# Altium schematic symbol library ESClib1.SchLib: 62 symbols (part 2 of 2)
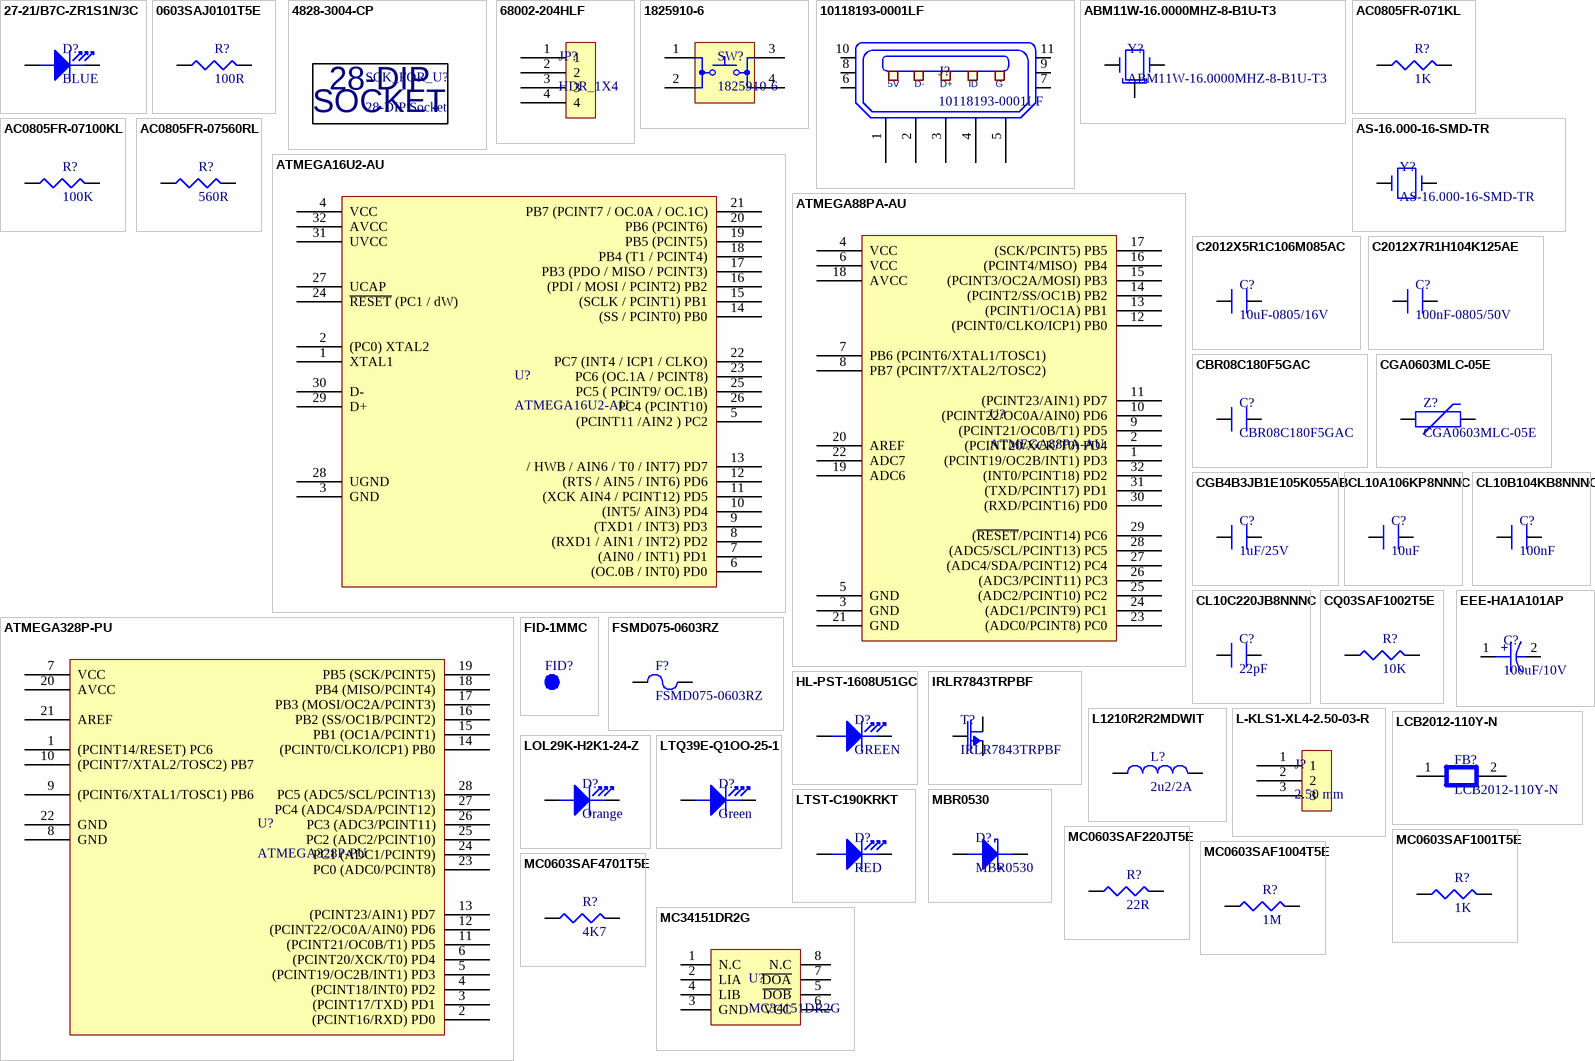
[diagram p2: symbols 27-21/B7C-ZR1S1N/3C to MC34151DR2G]

## LTST-C190KRKT
designator D?, comment RED
0603 red led alingap 631nm-639nm water clear 18-180mcd 130d; Manufacturer: Vishay Lite-On; Manufacturer Part Number: LTST-C190KRKT; Lens Color: Colorless; Luminous Intensity: 54mcd; Forward Current: 30mA; Viewing Angle: 130°; Forward Voltage: 2.4V; Lens Style: Diffused,Colorless,Clear,Rectangular; Power Rating: 75mW; Dominant Wavelength: 631nm; Test Current: 20mA; Number of Elements: 1; Wavelength: 639nm; Reverse Voltage: 5V; OZDISAN_PRICE: 0.38 TRY; Supplier 1: Digi-Key; RoHS: Yes; Category: LEDs; Stock 1: 874288; Pricing 1: 1=0,24000, 10=0,13200, 100=0,06110, 500=0,05640, 1000=0,04418, 2000=0,04324 (USD); Mount: Surface Mount; Case/Package: 0603; Number of Pins: 2; Color: Red; Case Code (Metric): 1608; Case Code (Imperial): 0603; Min Operating Temperature: -55°C; Max Operating Temperature: 85°C; Packaging: Tape and Reel; Package Quantity: 1; Illumination Color: Red; Lens Transparency: Clear; Power Dissipation: 75mW; Number of LEDs: 1; Length: 1.6mm; Width: 0.8mm; Height: 0.8mm; Depth: 0.8mm; Radiation Hardening: No; Lead Free: Lead Free; RoHS Compliant: Yes; ComponentLink1URL: https://datasheet.ciiva.com/19482/1260381-19482354.pdf?src-supplier=Jameco; ComponentLink1Description: https://datasheet.ciiva.com/19482/1260381-19482354.pdf?src-supplier=Jameco; ComponentLink2URL: https://datasheet.ciiva.com/11774/0900766b80dc02a9-11774043.pdf?src-supplier=RSComponents; ComponentLink2Description: https://datasheet.ciiva.com/11774/0900766b80dc02a9-11774043.pdf?src-supplier=RSComponents; ComponentLink3URL: https://datasheet.ciiva.com/12403/100-ltst-c190krkt-59805-12403895.pdf?src-supplier=Mouser; ComponentLink3Description: https://datasheet.ciiva.com/12403/100-ltst-c190krkt-59805-12403895.pdf?src-supplier=Mouser; ComponentLink4URL: https://datasheet.ciiva.com/16427/ltst-c190krkt-16427674.pdf?src-supplier=Future+Electronics; ComponentLink4Description: https://datasheet.ciiva.com/16427/ltst-c190krkt-16427674.pdf?src-supplier=Future+Electronics; ComponentLink5URL: https://datasheet.ciiva.com/15117/getdatasheetpartid-57395-15117240.pdf?src-supplier=Verical; ComponentLink5Description: https://datasheet.ciiva.com/15117/getdatasheetpartid-57395-15117240.pdf?src-supplier=Verical; ComponentLink6URL: https://datasheet.ciiva.com/2109/s-110-ltst-c190krkt-2109992.pdf?src-supplier=Digi-Key; ComponentLink6Description: https://datasheet.ciiva.com/2109/s-110-ltst-c190krkt-2109992.pdf?src-supplier=Digi-Key; ComponentLink7URL: https://datasheet.ciiva.com/2109/s-110-ltst-c190krkt-2109991.pdf?src-supplier=Digi-Key; ComponentLink7Description: https://datasheet.ciiva.com/2109/s-110-ltst-c190krkt-2109991.pdf?src-supplier=Digi-Key; ComponentLink8URL: https://datasheet.ciiva.com/2109/s-110-ltst-c190krkt-2109993.pdf?src-supplier=Digi-Key; ComponentLink8Description: https://datasheet.ciiva.com/2109/s-110-ltst-c190krkt-2109993.pdf?src-supplier=Digi-Key; ComponentLink9URL: https://datasheet.ciiva.com/26937/getdatasheetpartid-631582-26937958.pdf?src-supplier=Verical; ComponentLink9Description: https://datasheet.ciiva.com/26937/getdatasheetpartid-631582-26937958.pdf?src-supplier=Verical; Supplier Part Number 1: 160-1436-1-ND; ComponentLink10Description: OZDISAN_LINK; ComponentLink10URL: https://ozdisan.com/led-ve-aydinlatma-cozumleri/led-komponentler/sinyal-ledler-renkli/LTST-C190KRKT
footprint LED-0603
pins: 1 Cathode, 2 Anode

## MBR0530
designator D?
DIODE SCHOTTKY 30V 500MA SOD123; Manufacturer: ON Semiconductor / Fairchild; Element Configuration: Single; Max Surge Current: 5.5A; Max Reverse Leakage Current: 130uA; Forward Voltage: 430mV; Polarity: Standard; Supplier 1: Newark; Manufacturer Part Number: MBR0530; RoHS: Yes; Category: Schottky Diodes; Stock 1: 10; Pricing 1: 1=0,34400, 10=0,23900, 100=0,12200, 500=0,10000 (USD); Mount: Surface Mount; Number of Pins: 2; Contact Plating: Tin,Matte; Weight: 0.03g; Min Operating Temperature: -65°C; Max Operating Temperature: 150°C; Packaging: Tape and Reel; Package Quantity: 1; Peak Non-Repetitive Surge Current: 5.5A; Average Rectified Current: 500mA; Max Reverse Voltage (DC): 30V; Forward Current: 500mA; Max Reverse Current: 130uA; Max Repetitive Reverse Voltage (Vrrm): 30V; Max Forward Surge Current (Ifsm): 5.5A; Voltage Rating (DC): 30V; Current Rating: 500mA; Output Current: 500mA; Series: -; Length: 2.7mm; Width: 1.6mm; Height: 1.03mm; Radiation Hardening: No; RoHS Compliant: Yes; REACH SVHC: No SVHC; Lead Free: Lead Free; ComponentLink1URL: https://datasheet.ciiva.com/30479/0900766b810e2512-30479401.pdf?src-supplier=RSComponents; ComponentLink1Description: https://datasheet.ciiva.com/30479/0900766b810e2512-30479401.pdf?src-supplier=RSComponents; ComponentLink2URL: https://datasheet.ciiva.com/34301/974753-34301826.pdf?src-supplier=Jameco; ComponentLink2Description: https://datasheet.ciiva.com/34301/974753-34301826.pdf?src-supplier=Jameco; ComponentLink3URL: https://datasheet.ciiva.com/910/mbr0530-910516.pdf?src-supplier=Digi-Key; ComponentLink3Description: https://datasheet.ciiva.com/910/mbr0530-910516.pdf?src-supplier=Digi-Key; ComponentLink4URL: https://datasheet.ciiva.com/25931/mbr0530-25931989.pdf?src-supplier=Avnet+Europe; ComponentLink4Description: https://datasheet.ciiva.com/25931/mbr0530-25931989.pdf?src-supplier=Avnet+Europe; ComponentLink5URL: https://datasheet.ciiva.com/8300/mbr0530-8300905.pdf?src-supplier=Avnet; ComponentLink5Description: https://datasheet.ciiva.com/8300/mbr0530-8300905.pdf?src-supplier=Avnet; ComponentLink6URL: https://datasheet.ciiva.com/17318/mbr0530-17318568.pdf?src-supplier=Future+Electronics; ComponentLink6Description: https://datasheet.ciiva.com/17318/mbr0530-17318568.pdf?src-supplier=Future+Electronics; ComponentLink7URL: https://datasheet.ciiva.com/15144/getdatasheetpartid-86760-15144598.pdf?src-supplier=Verical; ComponentLink7Description: https://datasheet.ciiva.com/15144/getdatasheetpartid-86760-15144598.pdf?src-supplier=Verical; ComponentLink8URL: https://datasheet.ciiva.com/910/mbr0530-910518.pdf?src-supplier=Digi-Key; ComponentLink8Description: https://datasheet.ciiva.com/910/mbr0530-910518.pdf?src-supplier=Digi-Key; Supplier Part Number 1: 15R3453
footprint SOD-123
pins: 1 Cathode, 2 Anode

## MC0603SAF220JT5E
designator R?, comment 22R
MULTICOMP         MC0603SAF220JT5E            RESISTOR, THICK FILM, 22OHM, 100mW, 1%; Voltage Rating: 75V; Temperature Coefficient: 100ppm/°C; OZDISAN_PRICE: 0.02 TRY; Supplier 1: Newark; Manufacturer: Multicomp; Manufacturer Part Number: MC0603SAF220JT5E; RoHS: Yes; Category: Resistors; Case/Package: 0603; Number of Pins: 2; Case Code (Metric): 1608; Case Code (Imperial): 0603; Packaging: Cut Tape; Resistance: 22R; Resistor Type: Thick Film; Power Rating: 100mW; Tolerance: 1%; Voltage Rating (DC): 75V; Resistance Tolerance: 1%; RoHS Compliant: Yes; REACH SVHC: Unknown; ComponentLink1URL: https://datasheet.ciiva.com/7918/ta-677-7918822.pdf?src-supplier=Element14; ComponentLink1Description: https://datasheet.ciiva.com/7918/ta-677-7918822.pdf?src-supplier=Element14; Supplier Part Number 1: 79M5934; ComponentLink2Description: OZDISAN_LINK; ComponentLink2URL: https://ozdisan.com/pasif-komponentler/direncler/smt-smd-ve-cip-direncler/0603SAF220JT5E
footprint Z0603
pins: 1, 2

## MC0603SAF1001T5E
designator R?, comment 1K
MULTICOMP - MC0603SAF1001T5E - THICK FILM RESISTOR, 1KOHM, 100mW, 1%; Resistance: 1kR; Voltage Rating: 75V; Temperature Coefficient: 100ppm/°C; OZDISAN_PRICE: 0.02 TRY; Supplier 1: Farnell; Manufacturer: Multicomp; Manufacturer Part Number: MC0603SAF1001T5E; RoHS: Yes; Category: Resistors; Stock 1: 340; Pricing 1: 1=0,00890, 10=0,00810, 100=0,00730, 1000=0,00390 (GBP); Case/Package: 0603; Case Code (Metric): 1608; Case Code (Imperial): 0603; Tolerance: 1%; Power Rating: 100mW; Resistor Type: Thick Film; Packaging: Cut Tape; Voltage Rating (DC): 75V; Resistance Tolerance: 1%; RoHS Compliant: Yes; REACH SVHC: Unknown; ComponentLink1URL: https://datasheet.ciiva.com/7881/ta-677-7881657.pdf?src-supplier=Element14; ComponentLink1Description: https://datasheet.ciiva.com/7881/ta-677-7881657.pdf?src-supplier=Element14; Supplier Part Number 1: 1632391; ComponentLink2Description: OZDISAN_LINK; ComponentLink2URL: https://ozdisan.com/pasif-komponentler/direncler/smt-smd-ve-cip-direncler/0603SAF1001T5E
footprint Z0603
pins: 1, 2

## MC0603SAF1004T5E
designator R?, comment 1M
Res General Purpose Thick Film 0603 1M Ohm 1% 1/10W ±100ppm/°C Molded T/R; Manufacturer: Multicomp; Manufacturer Part Number: MC0603SAF1004T5E; Resistance: 1MR; Power Rating: 100mW; Voltage Rating: 75V; OZDISAN_PRICE: 0.02 TRY; Supplier 1: Farnell; RoHS: Yes; Category: Uncategorized; Stock 1: 15998; Pricing 1: 1=0,00910, 10=0,00830, 100=0,00740, 1000=0,00400 (GBP); Case/Package: 0603; Case Code (Metric): 1608; Case Code (Imperial): 0603; Tolerance: 1%; Resistor Type: Thick Film; Packaging: Cut Tape; Temperature Coefficient: 100ppm/°C; Voltage Rating (DC): 75V; Resistance Tolerance: 1%; REACH SVHC: Unknown; RoHS Compliant: Yes; ComponentLink1URL: https://datasheet.ciiva.com/7919/ta-677-7919113.pdf?src-supplier=Element14; ComponentLink1Description: https://datasheet.ciiva.com/7919/ta-677-7919113.pdf?src-supplier=Element14; Supplier Part Number 1: 1631320; ComponentLink2Description: ÖZDISAN_LINK; ComponentLink2URL: https://ozdisan.com/pasif-komponentler/direncler/smt-smd-ve-cip-direncler/0603SAF1004T5E
footprint Z0603
pins: 1, 2

## MC0603SAF4701T5E
designator R?, comment 4K7
RES, THICK FILM, 4K7, 1%, 0.1W, 0603; Resistance: 4.7kohm; Resistance Tolerance: ± 1%; Power Rating: 100mW; Resistor...; Manufacturer: Multicomp; Manufacturer Part Number: MC0603SAF4701T5E; Voltage Rating: 75V; Resistance: 4.7kR; Temperature Coefficient: 100ppm/°C; OZDISAN_PRICE: 0.02 TRY; Supplier 1: Farnell; RoHS: Yes; Category: Uncategorized; Pricing 1: 1=0,00890, 10=0,00810, 100=0,00730, 1000=0,00400 (GBP); Case/Package: 0603; Number of Pins: 2; Case Code (Metric): 1608; Case Code (Imperial): 0603; Tolerance: 1%; Resistor Type: Thick Film; Packaging: Cut Tape; Voltage Rating (DC): 75V; Resistance Tolerance: 1%; RoHS Compliant: Yes; REACH SVHC: Unknown; ComponentLink1URL: https://datasheet.ciiva.com/7919/ta-677-7919115.pdf?src-supplier=Element14; ComponentLink1Description: https://datasheet.ciiva.com/7919/ta-677-7919115.pdf?src-supplier=Element14; Supplier Part Number 1: 1632439; ComponentLink2Description: OZDISAN_LINK; ComponentLink2URL: https://ozdisan.com/pasif-komponentler/direncler/smt-smd-ve-cip-direncler/0603SAF4701T5E
footprint Z0603
pins: 1, 2

## MC34151DR2G
designator U?
MC34151DR2G; Dual MOSFET Power Driver 1.5A; 6.5 to 18 V; Inverting; 8-Pin SOIC; Manufacturer: ON Semiconductor; Rise Time: 31ns; Propagation Delay: 100ns; Max Supply Voltage: 18V; Min Supply Voltage: 6.5V; Operating Supply Voltage: 12V; Number of Outputs: 2; Max Power Dissipation: 560mW; Nominal Supply Current: 10.5mA; Fall Time: 32ns; Turn-On Delay Time: 100ps; Turn-Off Delay Time: 0.0001ms; OZDISAN_PRICE: 16,19 TRY; Supplier 1: RSComponents; Manufacturer Part Number: MC34151DR2G; RoHS: Yes; Category: Gate Drivers; Stock 1: 1; Pricing 1: 10=1,76000, 50=1,49600, 200=1,32300, 500=1,14100 (USD); Mount: Surface Mount; Case/Package: SOIC; Number of Pins: 8; Min Operating Temperature: 0°C; Max Operating Temperature: 70°C; Max Output Current: 1.5A; Packaging: Tape and Reel; Package Quantity: 1; Number of Drivers: 2; Power Dissipation: 560mW; Series: -; Supply Current: 10.5mA; Length: 5mm; Width: 4mm; Height: 1.5mm; Radiation Hardening: No; REACH SVHC: No SVHC; Lead Free: Lead Free; Halogen Free: Halogen Free; RoHS Compliant: Yes; ComponentLink1URL: https://datasheet.ciiva.com/15109/getdatasheetpartid-134182-15109928.pdf?src-supplier=Verical; ComponentLink1Description: https://datasheet.ciiva.com/15109/getdatasheetpartid-134182-15109928.pdf?src-supplier=Verical; ComponentLink2URL: https://datasheet.ciiva.com/1952/mc34151-d-1952163.pdf?src-supplier=Digi-Key; ComponentLink2Description: https://datasheet.ciiva.com/1952/mc34151-d-1952163.pdf?src-supplier=Digi-Key; ComponentLink3URL: https://datasheet.ciiva.com/1952/mc34151-d-1952164.pdf?src-supplier=Digi-Key; ComponentLink3Description: https://datasheet.ciiva.com/1952/mc34151-d-1952164.pdf?src-supplier=Digi-Key; ComponentLink4URL: https://datasheet.ciiva.com/1952/mc34151-d-1952165.pdf?src-supplier=Digi-Key; ComponentLink4Description: https://datasheet.ciiva.com/1952/mc34151-d-1952165.pdf?src-supplier=Digi-Key; ComponentLink5URL: https://datasheet.ciiva.com/3226/mc34151-d-3226488.pdf?src-supplier=Avnet; ComponentLink5Description: https://datasheet.ciiva.com/3226/mc34151-d-3226488.pdf?src-supplier=Avnet; ComponentLink6URL: https://datasheet.ciiva.com/16446/mc34151-d-16446234.pdf?src-supplier=Future+Electronics; ComponentLink6Description: https://datasheet.ciiva.com/16446/mc34151-d-16446234.pdf?src-supplier=Future+Electronics; ComponentLink7URL: https://datasheet.ciiva.com/4898/mc34151-d-24876-4898572.pdf?src-supplier=Mouser; ComponentLink7Description: https://datasheet.ciiva.com/4898/mc34151-d-24876-4898572.pdf?src-supplier=Mouser; Supplier Part Number 1: 8083889; ComponentLink8Description: OZDISAN_LINK; ComponentLink8URL: https://ozdisan.com/entegre-devreler-ics/guc-entegreleri/guc-surucu-entegreleri/MC34151DR2G
footprint SOIC-8 (MC34151DR2G)
pins: 1 N.C, 2 LIA, 3 GND, 4 LIB, 5 ~{DOB}, 6 VCC, 7 ~{DOA}, 8 N.C

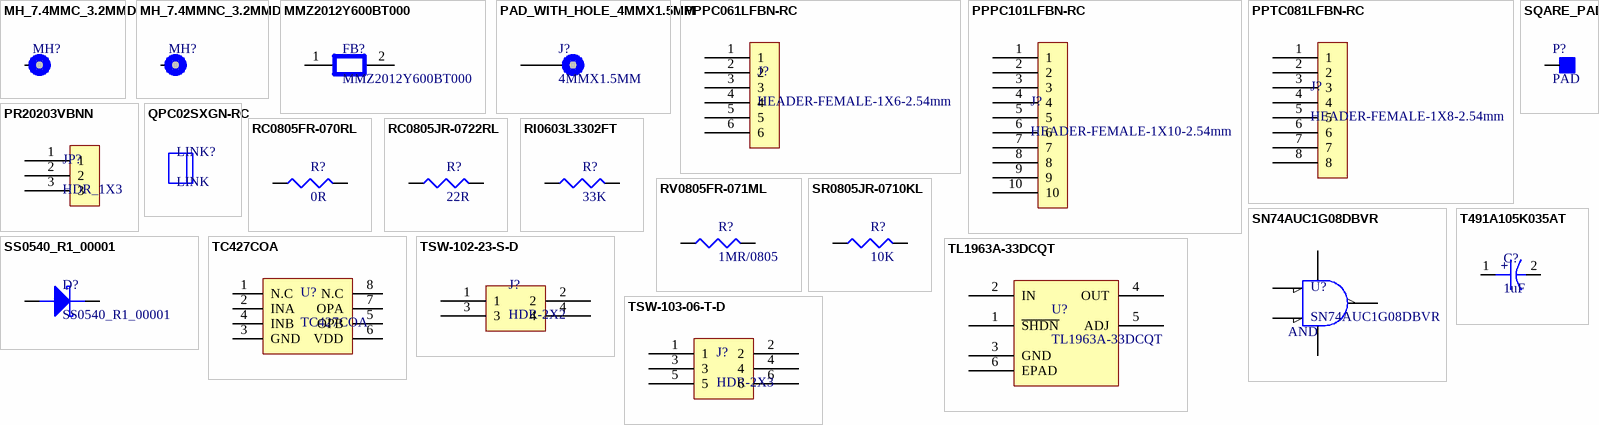
[diagram p1: symbols MH_7.4MMC_3.2MMD to TSW-103-06-T-D]

## MH_7.4MMC_3.2MMD
designator MH?  (value not drawn)  (no BOM)
Mounting Hole 7.4 mm Diameter, 3.2 mm Drill
footprint MH_7.4MMC_3.2MMD
pins: 1

## MH_7.4MMNC_3.2MMD
designator MH?, comment MH_7.4MMC_3.2MMD  (value not drawn)  (no BOM)
Mounting Hole 7.4 mm Diameter (Non Copper), 3.2 mm Drill NPTH
footprint MH_7.4MMC_3.2MMD_NON_COPPER_NPLT
pins: 1

## MMZ2012Y600BT000
designator FB?
TDK         MMZ2012Y600BT000             FERRITE BEAD, 60 OHM, 1A, 0805; Tolerance: 25%; Impedance: 60R; DC Resistance (DCR): 100mR; Supplier 1: Digi-Key; Manufacturer: TDK; Manufacturer Part Number: MMZ2012Y600BT000; RoHS: Yes; Category: Ferrite Beads and Chips; Stock 1: 10400; Pricing 1: 1=0,11000, 10=0,08800, 25=0,07920, 50=0,05800, 100=0,05020, 250=0,03960, 500=0,03344, 1000=0,02816 (USD); Mount: Surface Mount; Case/Package: 0805; Core Material: Ferrite; Case Code (Metric): 2012; Case Code (Imperial): 0805; Current Rating: 1A; Package Quantity: 4000; Packaging: Tape and Reel; Max DC Current: 1A; Length: 0.079inch; Width: 0.049inch; Height: 0.041inch; Depth: 1.25mm; RoHS Compliant: Yes; REACH SVHC: No SVHC; ComponentLink1URL: https://datasheet.ciiva.com/46634/beads-commercial-signal-mmz-en-46634486.pdf?src-supplier=Digi-Key; ComponentLink1Description: https://datasheet.ciiva.com/46634/beads-commercial-signal-mmz-en-46634486.pdf?src-supplier=Digi-Key; ComponentLink2URL: https://datasheet.ciiva.com/46634/beads-commercial-signal-mmz-en-46634489.pdf?src-supplier=Digi-Key; ComponentLink2Description: https://datasheet.ciiva.com/46634/beads-commercial-signal-mmz-en-46634489.pdf?src-supplier=Digi-Key; ComponentLink3URL: https://datasheet.ciiva.com/46634/beads-commercial-signal-mmz-en-46634603.pdf?src-supplier=Digi-Key; ComponentLink3Description: https://datasheet.ciiva.com/46634/beads-commercial-signal-mmz-en-46634603.pdf?src-supplier=Digi-Key; ComponentLink4URL: https://datasheet.ciiva.com/48682/beads-commercial-signal-mmz-en-48682571.pdf?src-supplier=Avnet; ComponentLink4Description: https://datasheet.ciiva.com/48682/beads-commercial-signal-mmz-en-48682571.pdf?src-supplier=Avnet; Supplier Part Number 1: 445-2204-1-ND
footprint C0805
pins: 1, 2

## PAD_WITH_HOLE_4MMX1.5MM
designator J?, comment 4MMX1.5MM  (no BOM)
Pad with a hole 4mm x 1.5mm
footprint PAD_WITH_HOLE_4MMX1.5MM
pins: 1

## PPPC061LFBN-RC
designator J?, comment HEADER-FEMALE-1X6-2.54mm
CONN HDR 6POS 0.1 GOLD PCB; Manufacturer: Sullins; Manufacturer Part Number: PPPC061LFBN-RC; Connector Type: Header,Socket; Number of Positions: 6; Pitch: 0.1inch; Supplier 1: Digi-Key; RoHS: Yes; Category: Connectors; Stock 1: 33601; Pricing 1: 1=0,53000, 10=0,46500, 80=0,38300, 440=0,33300, 1000=0,27472, 5000=0,24142, 10000=0,24050 (USD); Mount: Through Hole; Color: Black; Contact Plating: Gold; Housing Material: Plastic; Contact Material: Bronze; Package Quantity: 1000; Number of Rows: 1; Packaging: Bulk; Termination: Solder; Length: 15.7mm; Width: 2.5mm; Height: 8.5mm; Lead Free: Lead Free; ComponentLink1URL: https://media.digikey.com/pdf/Data%20Sheets/Sullins%20PDFs/Female_Headers.100_DS.pdf?src-supplier=Digi-Key; ComponentLink1Description: https://media.digikey.com/pdf/Data%20Sheets/Sullins%20PDFs/Female_Headers.100_DS.pdf?src-supplier=Digi-Key; Supplier Part Number 1: S7039-ND
footprint FEMALE-1X6-2.54mm
pins: 1, 2, 3, 4, 5, 6

## PPPC101LFBN-RC
designator J?, comment HEADER-FEMALE-1X10-2.54mm
CONN HDR 10POS 0.1 GOLD PCB; Manufacturer: Sullins; Manufacturer Part Number: PPPC101LFBN-RC; Number of Positions: 10; Connector Type: Header,Socket; Pitch: 0.1inch; Supplier 1: Digi-Key; RoHS: Yes; Category: Connectors; Stock 1: 33225; Pricing 1: 1=0,68000, 10=0,57100, 80=0,51288, 440=0,41959, 1000=0,37296, 5000=0,33670 (USD); Mount: Through Hole; Color: Black; Contact Material: Bronze; Housing Material: Plastic; Contact Plating: Gold; Number of Rows: 1; Packaging: Bulk; Termination: Solder; Package Quantity: 1000; Length: 25.9mm; Width: 2.5mm; Height: 8.5mm; Lead Free: Lead Free; ComponentLink1URL: https://media.digikey.com/pdf/Data%20Sheets/Sullins%20PDFs/Female_Headers.100_DS.pdf?src-supplier=Digi-Key; ComponentLink1Description: https://media.digikey.com/pdf/Data%20Sheets/Sullins%20PDFs/Female_Headers.100_DS.pdf?src-supplier=Digi-Key; ComponentLink2URL: http://www.sullinscorp.com/catalogs/78_Page80-81_HEADER_.100_2.54mm_FEMALE.pdf?src-supplier=Future+Electronics; ComponentLink2Description: http://www.sullinscorp.com/catalogs/78_Page80-81_HEADER_.100_2.54mm_FEMALE.pdf?src-supplier=Future+Electronics; Supplier Part Number 1: S7043-ND
footprint FEMALE-1X10-2.54mm
pins: 1, 2, 3, 4, 5, 6, 7, 8, 9, 10

## PPTC081LFBN-RC
designator J?, comment HEADER-FEMALE-1X8-2.54mm
CONN HDR 8POS 0.1 TIN PCB; Manufacturer: Sullins; Manufacturer Part Number: PPTC081LFBN-RC; Number of Positions: 8; Connector Type: Header; Pitch: 0.1inch; Supplier 1: Digi-Key; RoHS: Yes; Category: Connectors; Stock 1: 76748; Pricing 1: 1=0,65000, 10=0,56500, 400=0,42525, 800=0,36450, 1200=0,33413, 5200=0,29363, 10000=0,29250 (USD); Mount: Through Hole; Color: Black; Contact Plating: Tin; Contact Material: Bronze; Housing Material: Plastic; Package Quantity: 1000; Number of Rows: 1; Packaging: Bulk; Termination: Solder; Contact Type: Female Socket; Length: 20.8mm; Width: 2.5mm; Height: 8.5mm; Lead Free: Lead Free; RoHS Compliant: Yes; ComponentLink1URL: https://media.digikey.com/pdf/Data%20Sheets/Sullins%20PDFs/Female_Headers.100_DS.pdf?src-supplier=Digi-Key; ComponentLink1Description: https://media.digikey.com/pdf/Data%20Sheets/Sullins%20PDFs/Female_Headers.100_DS.pdf?src-supplier=Digi-Key; ComponentLink2URL: http://www.sullinscorp.com/catalogs/78_Page80-81_HEADER_.100_2.54mm_FEMALE.pdf?src-supplier=Future+Electronics; ComponentLink2Description: http://www.sullinscorp.com/catalogs/78_Page80-81_HEADER_.100_2.54mm_FEMALE.pdf?src-supplier=Future+Electronics; Supplier Part Number 1: S7006-ND
footprint FEMALE-1X8-2.54mm
pins: 1, 2, 3, 4, 5, 6, 7, 8

## PR20203VBNN
designator JP?, comment HDR_1X3
METZ CONNECT - PR20203VBNN - CONNECTOR, HEADER, 3POS, 1ROW, 2.54MM; Supplier 1: Digi-Key; Manufacturer: METZ CONNECT; Manufacturer Part Number: PR20203VBNN; RoHS: No; Category: Headers and Wire Housings; Stock 1: 23360; Pricing 1: 1=0,10000, 10=0,05000, 100=0,03650, 500=0,03024, 1000=0,02646, 5000=0,02268, 10000=0,02205 (USD); ComponentLink1URL: http://www.farnell.com/datasheets/2372088.pdf?src-supplier=Farnell; ComponentLink1Description: http://www.farnell.com/datasheets/2372088.pdf?src-supplier=Farnell; ComponentLink2URL: https://www.metz-connect.com/us/system/files/productfiles/Data_sheet_PR202XXVBNN_PR202XXVBNN_OFF-024022P.pdf?src-supplier=Digi-Key; ComponentLink2Description: https://www.metz-connect.com/us/system/files/productfiles/Data_sheet_PR202XXVBNN_PR202XXVBNN_OFF-024022P.pdf?src-supplier=Digi-Key; ComponentLink3URL: http://www.farnell.com/datasheets/2372088.pdf?src-supplier=Newark; ComponentLink3Description: http://www.farnell.com/datasheets/2372088.pdf?src-supplier=Newark; Supplier Part Number 1: 1849-1003-ND
footprint FEMALE-1X3-2.54mm
pins: 1, 2, 3

## QPC02SXGN-RC
designator LINK?, comment LINK  (mechanical)
CONN JUMPER SHORTING .100" GOLD; Manufacturer: Sullins; Manufacturer Part Number: QPC02SXGN-RC; Number of Positions: 2; Pitch: 0.1inch; Supplier 1: Digi-Key; RoHS: Yes; Category: Connectors; Stock 1: 613321; Pricing 1: 1=0,10000, 10=0,05000, 25=0,04080, 50=0,03780, 100=0,03650, 250=0,03152, 500=0,03024, 1000=0,02646, 2500=0,02394 (USD); Case/Package: 100; Contact Plating: Gold; Package Quantity: 2000; Packaging: Bulk; Height: 0.235inch; Lead Free: Lead Free; ComponentLink1URL: https://datasheet.ciiva.com/767/284-sxgn-11510-767869.pdf?src-supplier=Digi-Key; ComponentLink1Description: https://datasheet.ciiva.com/767/284-sxgn-11510-767869.pdf?src-supplier=Digi-Key; Supplier Part Number 1: S9337-ND

## RC0805FR-070RL
designator R?, comment 0R
Res Thick Film 0805 0 Ohm Epoxy Pad SMD T/R; Manufacturer: Yageo; Manufacturer Part Number: RC0805FR-070RL; Resistance: 0mR; Tolerance: 1%; Power Rating: 125mW; Supplier 1: Digi-Key; RoHS: Yes; Category: Chip SMD Resistors; Stock 1: 312891; Pricing 1: 1=0,10000, 10=0,03200, 25=0,02360, 50=0,01780, 100=0,01320, 250=0,01004, 500=0,00802, 1000=0,00591 (USD); Case/Package: 0805; Contact Plating: Tin,Matte; Case Code (Imperial): 0805; Case Code (Metric): 2012; Size Code: 0805; Min Operating Temperature: -55°C; Max Operating Temperature: 155°C; Resistor Type: Thick Film; Packaging: Tape and Reel; Features: Moisture Resistant; Series: RC; Max Power Dissipation: 125mW; Number of Terminations: 2; Construction: Rectangular; Length: 2mm; Depth: 1.25mm; Radiation Hardening: No; Military Standard: Not; Lead Free: Lead Free; RoHS Compliant: Yes; ComponentLink1URL: https://datasheet.ciiva.com/17042/rc0805-17042698.pdf?src-supplier=Future+Electronics; ComponentLink1Description: https://datasheet.ciiva.com/17042/rc0805-17042698.pdf?src-supplier=Future+Electronics; ComponentLink2URL: https://datasheet.ciiva.com/15189/getdatasheetpartid-348154-15189885.pdf?src-supplier=Verical; ComponentLink2Description: https://datasheet.ciiva.com/15189/getdatasheetpartid-348154-15189885.pdf?src-supplier=Verical; Supplier Part Number 1: 311-0.0CRCT-ND
footprint R0805
pins: 1, 2

## RC0805JR-0722RL
designator R?, comment 22R
Res Thick Film 0805 22 Ohm 5% 1/8W 100ppm/C Molded SMD SMD Paper T/R; Manufacturer: Yageo; Manufacturer Part Number: RC0805JR-0722RL; Temperature Coefficient: 100ppm/°C; Power Rating: 125mW; Voltage Rating: 150V; Supplier 1: Digi-Key; RoHS: Yes; Category: Chip SMD Resistors; Stock 1: 938662; Pricing 1: 1=0,10000, 10=0,03600, 100=0,01450, 1000=0,00652, 2500=0,00566 (USD); Case/Package: 0805; Contact Plating: Tin,Matte,Lead; Case Code (Imperial): 0805; Case Code (Metric): 2012; Min Operating Temperature: -55°C; Max Operating Temperature: 155°C; Resistor Type: Thick Film; Tolerance: 5%; Resistance: 22R; Termination: SMD/SMT; Packaging: Tape and Reel; Length: 2mm; Depth: 1.25mm; Radiation Hardening: No; Military Standard: Not; Lead Free: Lead Free; REACH SVHC: Unknown; ComponentLink1URL: http://www.mouser.com/ds/2/447/Yageo_08112016_RC0805-968729.pdf?src-supplier=Mouser; ComponentLink1Description: http://www.mouser.com/ds/2/447/Yageo_08112016_RC0805-968729.pdf?src-supplier=Mouser; ComponentLink2URL: http://www.farnell.com/datasheets/2167052.pdf?src-supplier=Farnell; ComponentLink2Description: http://www.farnell.com/datasheets/2167052.pdf?src-supplier=Farnell; ComponentLink3URL: http://components.arrow.com/part/dataview/0323_00047573?src-supplier=Arrow+Europe; ComponentLink3Description: http://components.arrow.com/part/dataview/0323_00047573?src-supplier=Arrow+Europe; ComponentLink4URL: http://www.farnell.com/datasheets/444164.pdf?src-supplier=Farnell; ComponentLink4Description: http://www.farnell.com/datasheets/444164.pdf?src-supplier=Farnell; ComponentLink5URL: http://www.yageo.ru/pdf/RC0805.pdf?src-supplier=Future+Electronics; ComponentLink5Description: http://www.yageo.ru/pdf/RC0805.pdf?src-supplier=Future+Electronics; ComponentLink6URL: http://www.yageo.com/documents/recent/PYu-RC_Group_51_RoHS_L_10.pdf?src-supplier=Digi-Key; ComponentLink6Description: http://www.yageo.com/documents/recent/PYu-RC_Group_51_RoHS_L_10.pdf?src-supplier=Digi-Key; ComponentLink7URL: http://www.farnell.com/datasheets/442941.pdf?src-supplier=Element14; ComponentLink7Description: http://www.farnell.com/datasheets/442941.pdf?src-supplier=Element14; ComponentLink8URL: http://www.yageo.com/documents/recent/PYu-RC_Group_51_RoHS_L_9.pdf?src-supplier=Digi-Key; ComponentLink8Description: http://www.yageo.com/documents/recent/PYu-RC_Group_51_RoHS_L_9.pdf?src-supplier=Digi-Key; ComponentLink9URL: http://www.yageo.com/pdf/PYu-RC0805_51_RoHS_L_4.pdf?src-supplier=Avnet; ComponentLink9Description: http://www.yageo.com/pdf/PYu-RC0805_51_RoHS_L_4.pdf?src-supplier=Avnet; ComponentLink10URL: http://www.farnell.com/datasheets/444164.pdf?src-supplier=Element14; ComponentLink10Description: http://www.farnell.com/datasheets/444164.pdf?src-supplier=Element14; ComponentLink11URL: http://www.farnell.com/datasheets/2167052.pdf?src-supplier=Newark; ComponentLink11Description: http://www.farnell.com/datasheets/2167052.pdf?src-supplier=Newark; ComponentLink12URL: http://www.yageo.com/documents/recent/PYu-RC0805_51_RoHS_L_5.pdf?src-supplier=Avnet+Europe; ComponentLink12Description: http://www.yageo.com/documents/recent/PYu-RC0805_51_RoHS_L_5.pdf?src-supplier=Avnet+Europe; Supplier Part Number 1: 311-22ARCT-ND
footprint R0805
pins: 1, 2

## RI0603L3302FT
designator R?, comment 33K
OZDISAN_PRICE: 0.09 TRY; ComponentLink1Description: OZDISAN_LINK; ComponentLink1URL: https://ozdisan.com/pasif-komponentler/direncler/smt-smd-ve-cip-direncler/TC0325B3302T5C; Case-Package: 0603
footprint Z0603
pins: 1, 2

## RV0805FR-071ML
designator R?, comment 1MR/0805
RES SMD 1M OHM 1% 1/8W 0805; Manufacturer: Yageo; Manufacturer Part Number: RV0805FR-071ML; Resistance: 1MR; Power Rating: 125mW; Voltage Rating: 400V; Temperature Coefficient: 200ppm/°C; Supplier 1: Digi-Key; RoHS: Yes; Category: Chip SMD Resistors; Stock 1: 4797; Pricing 1: 1=0,53000, 10=0,38100, 100=0,15240, 1000=0,07511, 2500=0,06959 (USD); Case/Package: 0805; Case Code (Metric): 2012; Case Code (Imperial): 0805; Min Operating Temperature: -55°C; Max Operating Temperature: 155°C; Package Quantity: 1; Tolerance: 1%; Packaging: Tape and Reel; Resistor Type: Thick Film; Number of Terminations: 2; Termination: SMD/SMT; Max Power Dissipation: 125mW; Features: Moisture Resistant; Series: RV; Length: 0.079inch; Width: 0.049inch; Height: 0.024inch; Lead Free: Lead Free; RoHS Compliant: Yes; ComponentLink1URL: https://datasheet.ciiva.com/5558/pyu-rv-51-rohs-l-2-5558239.pdf?src-supplier=Mouser; ComponentLink1Description: https://datasheet.ciiva.com/5558/pyu-rv-51-rohs-l-2-5558239.pdf?src-supplier=Mouser; Supplier Part Number 1: 311-1MNGCT-ND
footprint R0805
pins: 1, 2

## SN74AUC1G08DBVR
designator U?
LOGIC, 74AUC1G, AND GATE, SOT23-5; Manufacturer: Texas Instruments; Min Supply Voltage: 800mV; Max Supply Voltage: 2.7V; Quiescent Current: 10uA; Number of Inputs: 2; Propagation Delay: 2ns; Number of Outputs: 1; High Level Output Current: -9mA; Low Level Output Current: 9mA; Turn-On Delay Time: 2.4ns; Schmitt Trigger Input: No; Input Type: DIFFERENTIAL; Supplier 1: Digi-Key; Manufacturer Part Number: SN74AUC1G08DBVR; RoHS: Yes; Category: Logic Gates; Stock 1: 21198; Pricing 1: 1=0,43000, 10=0,34900, 25=0,31920, 100=0,23740, 250=0,21520, 500=0,17808, 1000=0,13356 (USD); Mount: Surface Mount; Case/Package: SOT-23; Number of Pins: 5; Weight: 0.000395oz; Contact Plating: Gold; Min Operating Temperature: -40°C; Max Operating Temperature: 85°C; Logic Function: AND GATE; Package Quantity: 3000; Packaging: Tape and Reel; Number of Circuits: 1; Number of Gates: 1; Number of Input Lines: 2; Number of Output Lines: 1; Number of Elements: 1; Series: 74AUC; Technology: CMOS; Output Current: 9mA; Number of Bits: 1; Max Output Current: 9mA; Termination: SMD/SMT; Length: 3.05mm; Width: 1.75mm; Height: 1.3mm; Radiation Hardening: No; Lead Free: Lead Free; RoHS Compliant: Yes; REACH SVHC: No SVHC; ComponentLink1URL: https://datasheet.ciiva.com/4216/1146sn74auc1g08-4216507.pdf?src-supplier=Arrow+Electronics; ComponentLink1Description: https://datasheet.ciiva.com/4216/1146sn74auc1g08-4216507.pdf?src-supplier=Arrow+Electronics; ComponentLink2URL: https://datasheet.ciiva.com/6124/1775236-6124395.pdf?src-supplier=Farnell; ComponentLink2Description: https://datasheet.ciiva.com/6124/1775236-6124395.pdf?src-supplier=Farnell; ComponentLink3URL: https://datasheet.ciiva.com/23844/1634288-23844654.pdf?src-supplier=Newark; ComponentLink3Description: https://datasheet.ciiva.com/23844/1634288-23844654.pdf?src-supplier=Newark; ComponentLink4URL: https://datasheet.ciiva.com/1864/sn74auc1g08-1864662.pdf?src-supplier=Digi-Key; ComponentLink4Description: https://datasheet.ciiva.com/1864/sn74auc1g08-1864662.pdf?src-supplier=Digi-Key; ComponentLink5URL: https://datasheet.ciiva.com/1864/sn74auc1g08-1864663.pdf?src-supplier=Digi-Key; ComponentLink5Description: https://datasheet.ciiva.com/1864/sn74auc1g08-1864663.pdf?src-supplier=Digi-Key; ComponentLink6URL: https://datasheet.ciiva.com/1864/sn74auc1g08-1864664.pdf?src-supplier=Digi-Key; ComponentLink6Description: https://datasheet.ciiva.com/1864/sn74auc1g08-1864664.pdf?src-supplier=Digi-Key; ComponentLink7URL: https://datasheet.ciiva.com/14292/sn74auc1g08-14292269.pdf?src-supplier=Avnet; ComponentLink7Description: https://datasheet.ciiva.com/14292/sn74auc1g08-14292269.pdf?src-supplier=Avnet; Supplier Part Number 1: 296-13170-1-ND
footprint DBV-SOT-23-5
pins: 1, 2, 3, 4, 5
text: AND

## SQARE_PAD
designator P?, comment PAD  (no BOM)
footprint SQARE_PAD
pins: 1

## SR0805JR-0710KL
designator R?, comment 10K
RES SMD 10K OHM 5% 1/8W 0805; Manufacturer: Yageo; Manufacturer Part Number: SR0805JR-0710KL; Resistance: 10kR; Power Rating: 125mW; Voltage Rating: 150V; Temperature Coefficient: 200ppm/°C; Supplier 1: Digi-Key; RoHS: Yes; Category: Chip SMD Resistors; Stock 1: 9830; Pricing 1: 1=0,25000, 10=0,21100, 100=0,08260, 1000=0,03458, 2500=0,03170 (USD); Case/Package: 0805; Case Code (Metric): 2012; Case Code (Imperial): 0805; Min Operating Temperature: -55°C; Max Operating Temperature: 155°C; Package Quantity: 1; Tolerance: 5%; Packaging: Tape and Reel; Resistor Type: Thick Film; Number of Terminations: 2; Termination: SMD/SMT; Max Power Dissipation: 125mW; Features: Automotive AEC-Q200; Series: SR; Length: 0.079inch; Width: 0.049inch; Height: 0.024inch; RoHS Compliant: Yes; ComponentLink1URL: https://datasheet.ciiva.com/2471/pyu-sr-20105-rohs-l-1-2471968.pdf?src-supplier=Digi-Key; ComponentLink1Description: https://datasheet.ciiva.com/2471/pyu-sr-20105-rohs-l-1-2471968.pdf?src-supplier=Digi-Key; ComponentLink2URL: https://datasheet.ciiva.com/5558/pyu-sr-20105-rohs-l-1-5558104.pdf?src-supplier=Mouser; ComponentLink2Description: https://datasheet.ciiva.com/5558/pyu-sr-20105-rohs-l-1-5558104.pdf?src-supplier=Mouser; Supplier Part Number 1: 13-SR0805JR-0710KLCT-ND
footprint R0805
pins: 1, 2

## SS0540_R1_00001
designator D?
Diode Schottky 40V 0.5A 2-Pin SOD-123 T/R; Manufacturer: Pan Jit; Peak Non-Repetitive Surge Current: 5.5A; Element Configuration: Single; OZDISAN_PRICE: 0.55 TRY; Supplier 1: Digi-Key; Manufacturer Part Number: SS0540_R1_00001; RoHS: Yes; Category: Rectifier Diodes; Stock 1: 6025; Pricing 1: 1=0,29000, 10=0,23400, 100=0,12410, 500=0,08168, 1000=0,05554 (USD); Mount: Surface Mount; Min Operating Temperature: -55°C; Max Operating Temperature: 125°C; Max Repetitive Reverse Voltage (Vrrm): 40V; Radiation Hardening: No; RoHS Compliant: Yes; ComponentLink1URL: http://www.panjit.com/upload/product/14/SS0520_SERIES.pdf?src-supplier=Avnet+Europe; ComponentLink1Description: http://www.panjit.com/upload/product/14/SS0520_SERIES.pdf?src-supplier=Avnet+Europe; ComponentLink2URL: http://www.panjit.com/upload/product/14/SS0520_SERIES.pdf?src-supplier=Avnet; ComponentLink2Description: http://www.panjit.com/upload/product/14/SS0520_SERIES.pdf?src-supplier=Avnet; Supplier Part Number 1: 3757-SS0540_R1_00001CT-ND; ComponentLink3Description: OZDISAN_LINK; ComponentLink3URL: https://ozdisan.com/guc-yari-iletkenleri/diyotlar-modul-diyotlar-ve-dogrultucular/schottky-diyotlar/SS0540R100001
footprint SOD-123
pins: 1 Cathode, 2 Anode

## T491A105K035AT
designator C?, comment 1uF
Cap Tant Solid 1uF 35V A CASE 10% (3.2 X 1.6 X 1.6mm) SMD 3216-18 7.5 Ohm 125 C T/R; Manufacturer: KEMET; Manufacturer Part Number: T491A105K035AT; Dielectric Material: Tantalum; Tolerance: 20%; ESR (Equivalent Series Resistance): 7.5R; Life (Hours): 2000Hour; Dissipation Factor: 4%; Polarity: Polar; Ripple Current: 100mA; Leakage Current: 500nA; Voltage: 25V; OZDISAN_PRICE: 1.78 TRY; Supplier 1: Digi-Key; RoHS: Yes; Category: Tantalum Capacitors; Stock 1: 48; Pricing 1: 1=0,53000, 10=0,37100, 50=0,26000, 100=0,22290, 500=0,16716, 1000=0,14115 (USD); Mount: Surface Mount,PCB; Case/Package: 1206; Number of Pins: 2; Case Code (Metric): 3216; Case Code (Imperial): 1206; Min Operating Temperature: -55°C; Max Operating Temperature: 125°C; Capacitance: 1uF; Packaging: Tape and Reel; Voltage Rating: 35V; Features: General Purpose; Package Quantity: 1; Voltage Rating (DC): 35V; Failure Rate: 0.001%; Termination: SMD/SMT; Length: 3.2mm; Width: 1.6mm; Height: 1.6mm; Depth: 1.6mm; Height - Seated (Max): 0.071inch; Radiation Hardening: No; RoHS Compliant: Yes; Lead Free: Lead Free; REACH SVHC: No SVHC; ComponentLink1URL: https://datasheet.ciiva.com/5933/1446014-5933344.pdf?src-supplier=Farnell; ComponentLink1Description: https://datasheet.ciiva.com/5933/1446014-5933344.pdf?src-supplier=Farnell; ComponentLink2URL: https://datasheet.ciiva.com/34303/2014692-34303850.pdf?src-supplier=Jameco; ComponentLink2Description: https://datasheet.ciiva.com/34303/2014692-34303850.pdf?src-supplier=Jameco; ComponentLink3URL: https://datasheet.ciiva.com/20171/458239-da-en-01-20171932.pdf?src-supplier=Rapid+Electronics; ComponentLink3Description: https://datasheet.ciiva.com/20171/458239-da-en-01-20171932.pdf?src-supplier=Rapid+Electronics; ComponentLink4URL: https://datasheet.ciiva.com/11793/0900766b80718482-11793428.pdf?src-supplier=RSComponents; ComponentLink4Description: https://datasheet.ciiva.com/11793/0900766b80718482-11793428.pdf?src-supplier=RSComponents; ComponentLink5URL: https://datasheet.ciiva.com/7759/kem-t2005-t491-7759103.pdf?src-supplier=Element14; ComponentLink5Description: https://datasheet.ciiva.com/7759/kem-t2005-t491-7759103.pdf?src-supplier=Element14; ComponentLink6URL: https://datasheet.ciiva.com/32431/t491a105k035zt-eng-tds-32431494.pdf?src-supplier=Distrelec; ComponentLink6Description: https://datasheet.ciiva.com/32431/t491a105k035zt-eng-tds-32431494.pdf?src-supplier=Distrelec; ComponentLink7URL: https://datasheet.ciiva.com/6248/kem-t2005-t491-6248103.pdf?src-supplier=Digi-Key; ComponentLink7Description: https://datasheet.ciiva.com/6248/kem-t2005-t491-6248103.pdf?src-supplier=Digi-Key; ComponentLink8URL: https://datasheet.ciiva.com/6248/kem-t2005-t491-6248102.pdf?src-supplier=Digi-Key; ComponentLink8Description: https://datasheet.ciiva.com/6248/kem-t2005-t491-6248102.pdf?src-supplier=Digi-Key; ComponentLink9URL: https://datasheet.ciiva.com/6248/kem-t2005-t491-6248104.pdf?src-supplier=Digi-Key; ComponentLink9Description: https://datasheet.ciiva.com/6248/kem-t2005-t491-6248104.pdf?src-supplier=Digi-Key; ComponentLink10URL: https://datasheet.ciiva.com/14595/70095774-14595590.pdf?src-supplier=Allied+Electronics; ComponentLink10Description: https://datasheet.ciiva.com/14595/70095774-14595590.pdf?src-supplier=Allied+Electronics; ComponentLink11URL: https://datasheet.ciiva.com/12883/kem-t2005-t491-12883366.pdf?src-supplier=Mouser; ComponentLink11Description: https://datasheet.ciiva.com/12883/kem-t2005-t491-12883366.pdf?src-supplier=Mouser; ComponentLink12Description: OZDISAN_LINK; ComponentLink12URL: https://ozdisan.com/pasif-komponentler/kondansatorler/tantal-kondansatorler/T491A105K035AT; Supplier Part Number 1: 399-8265-1-ND
footprint 1206 TANTAL CAP
pins: 1, 2
text: +

## TC427COA
designator U?
IC MOSFET DVR 1.5A DUAL HS 8SOIC; Manufacturer: Microchip; Number of Outputs: 2; Max Supply Voltage: 18V; Min Supply Voltage: 4.5V; Rise Time: 30ns; Propagation Delay: 75ns; Operating Supply Voltage: 16V; Max Power Dissipation: 470mW; Nominal Supply Current: 8mA; Output Impedance: 6R; OZDISAN_PRICE: 20,56 TRY; Supplier 1: Digi-Key; Manufacturer Part Number: TC427COA; RoHS: Yes; Category: Gate Drivers; Stock 1: 562; Pricing 1: 1=1,45000, 25=1,19800, 100=1,08120 (USD); Mount: Surface Mount; Case/Package: SOIC; Number of Pins: 8; Min Operating Temperature: 0°C; Max Operating Temperature: 70°C; Package Quantity: 100; Packaging: Rail/Tube; Max Output Current: 1.5A; Number of Drivers: 2; Fall Time: 30ns; Power Dissipation: 470mW; Max Supply Current: 8mA; Turn-On Delay Time: 75ns; Supply Current: 8mA; Series: -; Length: 4.9mm; Width: 3.91mm; Height: 1.42mm; Radiation Hardening: No; Lead Free: Lead Free; RoHS Compliant: Yes; REACH SVHC: No SVHC; ComponentLink1URL: https://datasheet.ciiva.com/8064/21415c-8064216.pdf?src-supplier=Element14; ComponentLink1Description: https://datasheet.ciiva.com/8064/21415c-8064216.pdf?src-supplier=Element14; ComponentLink2URL: https://datasheet.ciiva.com/1949/filehandler-aspxddocname-en011463-1949817.pdf?src-supplier=Digi-Key; ComponentLink2Description: https://datasheet.ciiva.com/1949/filehandler-aspxddocname-en011463-1949817.pdf?src-supplier=Digi-Key; ComponentLink3URL: https://datasheet.ciiva.com/3226/cn011463-3226573.pdf?src-supplier=Avnet; ComponentLink3Description: https://datasheet.ciiva.com/3226/cn011463-3226573.pdf?src-supplier=Avnet; ComponentLink4URL: https://datasheet.ciiva.com/17237/cn011463-17237167.pdf?src-supplier=Avnet+Europe; ComponentLink4Description: https://datasheet.ciiva.com/17237/cn011463-17237167.pdf?src-supplier=Avnet+Europe; Supplier Part Number 1: TC427COA-ND; ComponentLink5Description: OZDISAN_LINK; ComponentLink5URL: https://ozdisan.com/entegre-devreler-ics/guc-entegreleri/guc-surucu-entegreleri/TC427COA
footprint SOIC-8
pins: 1 N.C, 2 INA, 3 GND, 4 INB, 5 OPB, 6 VDD, 7 OPA, 8 N.C

## TL1963A-33DCQT
designator U?
Single Output LDO, 1.5A, 3.3V Fast Trans; Manufacturer: Texas Instruments; Number of Outputs: 1; Dropout Voltage: 340mV; Max Input Voltage: 20V; Min Input Voltage: 2.1V; Min Current Limit: 1.6A; Polarity: Positive; Accuracy: 3%; Quiescent Current: 1mA; Power Supply Rejection Ratio (PSRR): 63dB; Output Type: Fixed; Supplier 1: Digi-Key; Manufacturer Part Number: TL1963A-33DCQT; RoHS: Yes; Category: Voltage Regulators - Linear; Stock 1: 528; Pricing 1: 1=4,08000, 10=3,66600, 25=3,46560, 100=3,00340 (USD); Case/Package: SOT-223; Number of Pins: 6; Contact Plating: Gold; Min Operating Temperature: -40°C; Max Operating Temperature: 125°C; Packaging: Tape and Reel; Output Voltage: 3.3V; Output Current: 1.5A; Package Quantity: 250; Max Output Current: 1.5A; Number of Regulators: 1; Max Output Voltage: 3.3V; Min Output Voltage: 3.3V; Series: -; Radiation Hardening: No; Lead Free: Lead Free; RoHS Compliant: Yes; ComponentLink1URL: https://datasheet.ciiva.com/14279/tl1963a-33-14279286.pdf?src-supplier=Avnet; ComponentLink1Description: https://datasheet.ciiva.com/14279/tl1963a-33-14279286.pdf?src-supplier=Avnet; ComponentLink2URL: https://datasheet.ciiva.com/6591/tl1963a-6591431.pdf?src-supplier=Digi-Key; ComponentLink2Description: https://datasheet.ciiva.com/6591/tl1963a-6591431.pdf?src-supplier=Digi-Key; ComponentLink3URL: https://datasheet.ciiva.com/26176/tl1963a-25-26176573.pdf?src-supplier=Avnet+Europe; ComponentLink3Description: https://datasheet.ciiva.com/26176/tl1963a-25-26176573.pdf?src-supplier=Avnet+Europe; ComponentLink4URL: https://datasheet.ciiva.com/6591/tl1963a-6591406.pdf?src-supplier=Digi-Key; ComponentLink4Description: https://datasheet.ciiva.com/6591/tl1963a-6591406.pdf?src-supplier=Digi-Key; ComponentLink5URL: https://datasheet.ciiva.com/6591/tl1963a-6591407.pdf?src-supplier=Digi-Key; ComponentLink5Description: https://datasheet.ciiva.com/6591/tl1963a-6591407.pdf?src-supplier=Digi-Key; Supplier Part Number 1: 296-32342-1-ND
footprint DCQ (R-PDSO-G6)
pins: 1 ~{SHDN}, 2 IN, 3 GND, 4 OUT, 5 ADJ, 6 EPAD

## TSW-102-23-S-D
designator J?, comment HDR-2X2
CONN HEADER 4POS .100 DUAL GOLD; Manufacturer: Samtec; Manufacturer Part Number: TSW-102-23-S-D; Number of Contacts: 4; Gender: Male; Max Voltage Rating (AC): 550V; Max Current Rating: 7.6A; Connector Type: Male Pin; Pitch: 2.54mm; Row Spacing: 0.1inch; Supplier 1: Digi-Key; RoHS: Yes; Category: Connectors; Stock 1: 382; Pricing 1: 1=0,66000, 10=0,61800, 25=0,55600, 50=0,49420, 100=0,47360, 250=0,43244, 500=0,41184 (USD); Mount: Through Hole; Contact Plating: Gold; Housing Color: Black; Contact Material: Bronze; Housing Material: Plastic; Color: Black; Min Operating Temperature: -55°C; Max Operating Temperature: 125°C; Number of Rows: 2; Packaging: Bulk; Termination: Solder; Orientation: Straight; Number of Positions: 4; Series: TSW; Contact Type: Male Pin; Length: 5.08mm; Width: 5.08mm; Height: 2.54mm; Contact Mating Length: 0.23inch; Radiation Hardening: No; RoHS Compliant: Yes; Lead Free: Lead Free; ComponentLink1URL: https://datasheet.ciiva.com/6863/tsw-xxx-xx-xxx-x-xx-xxx-mkt-6863142.pdf?src-supplier=Digi-Key; ComponentLink1Description: https://datasheet.ciiva.com/6863/tsw-xxx-xx-xxx-x-xx-xxx-mkt-6863142.pdf?src-supplier=Digi-Key; ComponentLink2URL: https://datasheet.ciiva.com/10190/htsw-th-10190190.pdf?src-supplier=Avnet; ComponentLink2Description: https://datasheet.ciiva.com/10190/htsw-th-10190190.pdf?src-supplier=Avnet; Supplier Part Number 1: SAM1072-02-ND
footprint HDR-2X2-2.54MM
pins: 1, 2, 3, 4

## TSW-103-06-T-D
designator J?, comment HDR-2X3
SAMTEC         TSW-103-06-T-D             Board-To-Board Connector, Vertical, TSW Series, 6 Contacts, Header, 2.54 mm, Through Hole, 2 Rows; Number of Contacts: 6; Gender: Male; Max Current Rating: 7.6A; Max Voltage Rating (AC): 550V; Connector Type: Male Pin; Pitch: 2.54mm; Row Spacing: 0.1inch; Supplier 1: Digi-Key; Manufacturer: Samtec; Manufacturer Part Number: TSW-103-06-T-D; RoHS: Yes; Category: Headers and Wire Housings; Stock 1: 1730; Pricing 1: 1=0,50000, 10=0,42300, 100=0,32930, 500=0,28224, 1000=0,23520, 5000=0,20160, 10000=0,18816 (USD); Mount: Through Hole; Contact Plating: Tin; Contact Material: Bronze; Housing Color: Black; Housing Material: Polyester; Color: Black; Min Operating Temperature: -55°C; Max Operating Temperature: 105°C; Number of Rows: 2; Packaging: Bulk; Termination: Solder; Orientation: Straight; Series: TSW; Package Quantity: 1; Number of Positions: 6; Contact Type: Male Pin; Length: 7.62mm; Width: 5.08mm; Depth: 5.08mm; Contact Mating Length: 0.105inch; Radiation Hardening: No; RoHS Compliant: Yes; REACH SVHC: No SVHC; Lead Free: Lead Free; ComponentLink1URL: https://datasheet.ciiva.com/16722/htsw-th-16722934.pdf?src-supplier=Avnet+Europe; ComponentLink1Description: https://datasheet.ciiva.com/16722/htsw-th-16722934.pdf?src-supplier=Avnet+Europe; Supplier Part Number 1: TSW-103-06-T-D-ND
footprint HDR-2X3-2.54MM
pins: 1, 2, 3, 4, 5, 6